# Altium schematic symbol library Schlib1.SchLib: 4 symbols
Pins are listed as number, name and electrical type; pins without a type are passive.

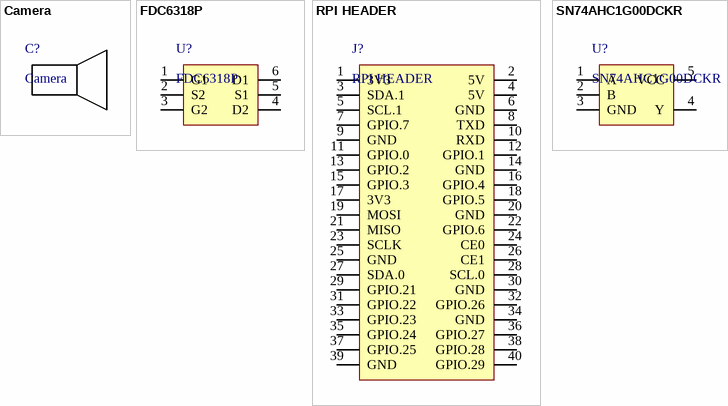
[diagram p0: symbols Camera to SN74AHC1G00DCKR]

## Camera
designator C?
footprint RPi-HQ-CAMERA
footprint SimpleCamera
footprint RPi-HQ-CAMERA-CONVERTER

## FDC6318P
designator U?
footprint SOT-23-6 (https://item.szlcsc.com/168890.html)
pins: 1 G1, 2 S2, 3 G2, 4 D2, 5 S1, 6 D1

## RPI HEADER
designator J?
footprint HEADER 2*20 SMD FRONT (https://item.szlcsc.com/2784389.html)
pins: 1 3V3 (power), 2 5V, 3 SDA.1, 4 5V, 5 SCL.1, 6 GND, 7 GPIO.7, 8 TXD, 9 GND, 10 RXD, 11 GPIO.0, 12 GPIO.1, 13 GPIO.2, 14 GND, 15 GPIO.3, 16 GPIO.4, 17 3V3, 18 GPIO.5, 19 MOSI, 20 GND, 21 MISO, 22 GPIO.6, 23 SCLK, 24 CE0, 25 GND, 26 CE1, 27 SDA.0, 28 SCL.0, 29 GPIO.21, 30 GND, 31 GPIO.22, 32 GPIO.26, 33 GPIO.23, 34 GND, 35 GPIO.24, 36 GPIO.27, 37 GPIO.25, 38 GPIO.28, 39 GND, 40 GPIO.29

## SN74AHC1G00DCKR
designator U?
footprint SC-70-5 (https://item.szlcsc.com/485828.html)
pins: 1 A, 2 B, 3 GND, 4 Y, 5 VCC